# Altium schematic symbol library Schlib.SchLib: 1 symbol
Pins are listed as number, name and electrical type; pins without a type are passive.

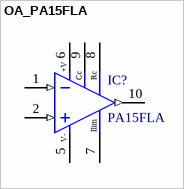
[diagram p0: symbol OA_PA15FLA]

## OA_PA15FLA
designator IC?, comment PA15FLA
High Voltage Power Operational Amplifier; Author: JK; Device: PA15FLA
footprint PA15FLA
pins: 1 IN- (in), 2 IN+ (in), 5 -Vs (power), 6 +Vs (power), 7 ILIM, 8 Rc, 9 Cc, 10 OUT (out)
1 alternate drawing of the same symbol
text: +V; V-; Ilim